# Altium schematic symbol library Schlib1.SchLib: 12 symbols
Pins are listed as number, name and electrical type; pins without a type are passive.

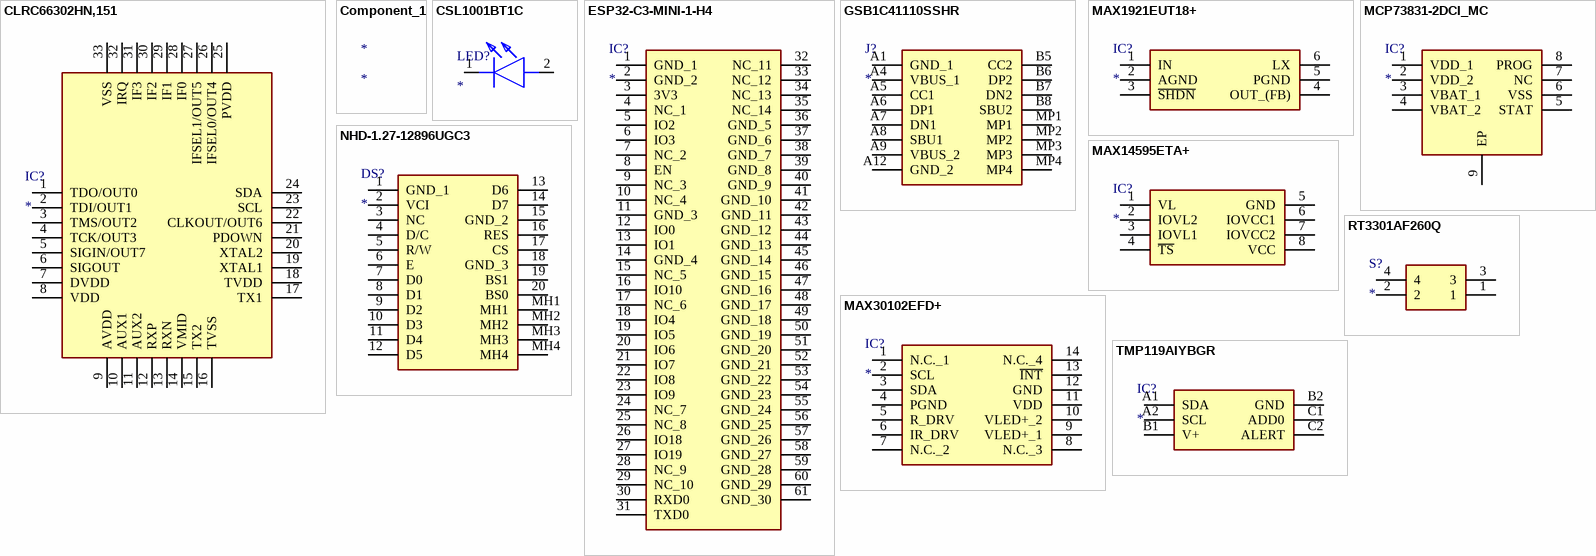
[diagram p0: symbols CLRC66302HN,151 to TMP119AIYBGR]

## CLRC66302HN,151
designator IC?
Integrated Circuit; Manufacturer_Name: NXP; Manufacturer_Part_Number: CLRC66302HN,151; Datasheet Link: https://www.nxp.com/docs/en/data-sheet/CLRC663.pdf; Height: 1mm; Mouser Part Number: 771-CLRC66302HN151; Mouser Price/Stock: https://www.mouser.co.uk/ProductDetail/NXP-Semiconductors/CLRC66302HN151?qs=5J1PErz%2F79mfg%2FHQR3Mbhw%3D%3D; Arrow Part Number: CLRC66302HN,151; Arrow Price/Stock: https://www.arrow.com/en/products/clrc66302hn151/nxp-semiconductors?region=nac
footprint QFN50P500X500X100-33N-D
pins: 1 TDO/OUT0, 2 TDI/OUT1, 3 TMS/OUT2, 4 TCK/OUT3, 5 SIGIN/OUT7, 6 SIGOUT, 7 DVDD, 8 VDD, 9 AVDD, 10 AUX1, 11 AUX2, 12 RXP, 13 RXN, 14 VMID, 15 TX2, 16 TVSS, 17 TX1, 18 TVDD, 19 XTAL1, 20 XTAL2, 21 PDOWN, 22 CLKOUT/OUT6, 23 SCL, 24 SDA, 25 PVDD, 26 IFSEL0/OUT4, 27 IFSEL1/OUT5, 28 IF0, 29 IF1, 30 IF2, 31 IF3, 32 IRQ, 33 VSS

## Component_1
designator *

## CSL1001BT1C
designator LED?
LED; Manufacturer_Name: ROHM Semiconductor; Manufacturer_Part_Number: CSL1001BT1C; Description: Blue 468nm LED Indication - Discrete 2.8V 0603 (1608 Metric); Datasheet Link: https://fscdn.rohm.com/en/products/databook/datasheet/opto/led/chip_mono/csl1001bt1(c)-e.pdf; Height: 1.16mm; Mouser Part Number: 755-CSL1001BT1C; Mouser Price/Stock: https://www.mouser.co.uk/ProductDetail/ROHM-Semiconductor/CSL1001BT1C?qs=HoCaDK9Nz5fqNTX3Pg0ReA%3D%3D
footprint CSL1001BT1C
pins: 1 K, 2 A

## ESP32-C3-MINI-1-H4
designator IC?
Integrated Circuit; Manufacturer_Name: Espressif Systems; Manufacturer_Part_Number: ESP32-C3-MINI-1-H4; Datasheet Link: https://www.mouser.es/datasheet/2/891/Espressif_ESP32_C3_MINI_1_Datasheet-2006822.pdf; Height: 2.55mm; Mouser Part Number: 356-ESP32-C3-MINI1H4; Mouser Price/Stock: https://www.mouser.co.uk/ProductDetail/Espressif-Systems/ESP32-C3-MINI-1-H4?qs=stqOd1AaK78JkwNX13Q9hQ%3D%3D
footprint ESP32C3MINI1H4
pins: 1 GND_1, 2 GND_2, 3 3V3, 4 NC_1, 5 IO2, 6 IO3, 7 NC_2, 8 EN, 9 NC_3, 10 NC_4, 11 GND_3, 12 IO0, 13 IO1, 14 GND_4, 15 NC_5, 16 IO10, 17 NC_6, 18 IO4, 19 IO5, 20 IO6, 21 IO7, 22 IO8, 23 IO9, 24 NC_7, 25 NC_8, 26 IO18, 27 IO19, 28 NC_9, 29 NC_10, 30 RXD0, 31 TXD0, 32 NC_11, 33 NC_12, 34 NC_13, 35 NC_14, 36 GND_5, 37 GND_6, 38 GND_7, 39 GND_8, 40 GND_9, 41 GND_10, 42 GND_11, 43 GND_12, 44 GND_13, 45 GND_14, 46 GND_15, 47 GND_16, 48 GND_17, 49 GND_18, 50 GND_19, 51 GND_20, 52 GND_21, 53 GND_22, 54 GND_23, 55 GND_24, 56 GND_25, 57 GND_26, 58 GND_27, 59 GND_28, 60 GND_29, 61 GND_30

## GSB1C41110SSHR
designator J?
Connector; Manufacturer_Name: Amphenol Communications Solutions; Manufacturer_Part_Number: GSB1C41110SSHR; Datasheet Link: https://cdn.amphenol-cs.com/media/wysiwyg/files/drawing/gsb1c41x10sshr-ax1.pdf; Height: 3.41mm
footprint GSB1C41110SSHR
pins: A1 GND_1, A4 VBUS_1, A5 CC1, A6 DP1, A7 DN1, A8 SBU1, A9 VBUS_2, A12 GND_2, B5 CC2, B6 DP2, B7 DN2, B8 SBU2, MP1, MP2, MP3, MP4

## MAX1921EUT18+
designator IC?
Integrated Circuit; Manufacturer_Name: Analog Devices; Manufacturer_Part_Number: MAX1921EUT18+; Datasheet Link: https://datasheet.datasheetarchive.com/originals/distributors/SFDatasheet-4/sf-00087114.pdf; Height: 1.45mm
footprint SOT95P280X145-6N
pins: 1 IN, 2 AGND, 3 ~{SHDN}, 4 OUT_(FB), 5 PGND, 6 LX

## MAX14595ETA+
designator IC?
Integrated Circuit; Manufacturer_Name: Analog Devices; Manufacturer_Part_Number: MAX14595ETA+; Datasheet Link: https://www.mouser.it/datasheet/2/256/MAX14595-471922.pdf; Height: 0.8mm; Mouser Part Number: 700-MAX14595ETA+; Mouser Price/Stock: https://www.mouser.co.uk/ProductDetail/Maxim-Integrated/MAX14595ETA%2b?qs=Or6ezLSzmEvDejm1TC8ZVA%3D%3D
footprint MAX14595ETA
pins: 1 VL, 2 IOVL2, 3 IOVL1, 4 ~{TS}, 5 GND, 6 IOVCC1, 7 IOVCC2, 8 VCC

## MAX30102EFD+
designator IC?
Integrated Circuit; Manufacturer_Name: Analog Devices; Manufacturer_Part_Number: MAX30102EFD+; Datasheet Link: https://datasheets.maximintegrated.com/en/ds/MAX30102.pdf; Mouser Part Number: 700-MAX30102EFD+; Mouser Price/Stock: https://www.mouser.co.uk/ProductDetail/Analog-Devices-Maxim-Integrated/MAX30102EFD%2b?qs=nVS1qgv%252BQrk9UYEvS27V%2Fg%3D%3D
footprint 14-LEAD-OESIP
pins: 1 N.C._1, 2 SCL, 3 SDA, 4 PGND, 5 R_DRV, 6 IR_DRV, 7 N.C._2, 8 N.C._3, 9 VLED+_1, 10 VLED+_2, 11 VDD, 12 GND, 13 ~{INT}, 14 N.C._4

## MCP73831-2DCI_MC
designator IC?
Integrated Circuit; Manufacturer_Name: Microchip; Manufacturer_Part_Number: MCP73831-2DCI/MC; Datasheet Link: https://www.arrow.com/en/products/mcp73831-2dcimc/microchip-technology; Height: 1mm; Mouser Part Number: 579-MCP73831-2DCI/MC; Mouser Price/Stock: https://www.mouser.co.uk/ProductDetail/Microchip-Technology/MCP73831-2DCI-MC?qs=hH%252BOa0VZEiBQ%2FrptDRXKdg%3D%3D; Arrow Part Number: MCP73831-2DCI/MC; Arrow Price/Stock: https://www.arrow.com/en/products/mcp73831-2dcimc/microchip-technology?region=nac
footprint SON50P300X200X100-9N-D
pins: 1 VDD_1, 2 VDD_2, 3 VBAT_1, 4 VBAT_2, 5 STAT, 6 VSS, 7 NC, 8 PROG, 9 EP

## NHD-1.27-12896UGC3
designator DS?
Display; Manufacturer_Name: Newhaven Display; Manufacturer_Part_Number: NHD-1.27-12896UGC3; Datasheet Link: https://www.newhavendisplay.com/specs/NHD-1.27-12896UGC3.pdf; Height: 5.4mm; Mouser Part Number: 763-NHD1.2712896UGC3; Mouser Price/Stock: https://www.mouser.co.uk/ProductDetail/Newhaven-Display/NHD-127-12896UGC3?qs=6DDkx98%252BHnCcf5K23TlgNg%3D%3D
footprint NHD12712896UGC3
pins: 1 GND_1, 2 VCI, 3 NC, 4 D/C, 5 R/W, 6 E, 7 D0, 8 D1, 9 D2, 10 D3, 11 D4, 12 D5, 13 D6, 14 D7, 15 GND_2, 16 RES, 17 CS, 18 GND_3, 19 BS1, 20 BS0, MH1, MH2, MH3, MH4

## RT3301AF260Q
designator S?
Switch; Manufacturer_Name: E-Switch; Manufacturer_Part_Number: RT3301AF260Q; Datasheet Link: https://configured-product-images.s3.amazonaws.com/2D/specs/RT3301AF260Q.pdf; Height: 5.5mm; Mouser Part Number: 612-RT3301AF260Q; Mouser Price/Stock: https://www.mouser.co.uk/ProductDetail/E-Switch/RT3301AF260Q?qs=9vOqFld9vZXQ7mjGs7Hlew%3D%3D
footprint RT3301AF260Q
footprint GSB1C41110SSHR
pins: 1, 2, 3, 4

## TMP119AIYBGR
designator IC?
Integrated Circuit; Manufacturer_Name: Texas Instruments; Manufacturer_Part_Number: TMP119AIYBGR; Datasheet Link: https://www.ti.com/lit/ds/symlink/tmp119.pdf?ts=1711471230059&ref_url=https%253A%252F%252Fwww.ti.com%252Fsitesearch%252Fen-us%252Fdocs%252Funiversalsearch.tsp%253FlangPref%253Den-US%2526searchTerm%253Dtmp119%2526nr%253D70; Height: 0.525mm; Mouser Part Number: 595-TMP119AIYBGR; Mouser Price/Stock: https://www.mouser.co.uk/ProductDetail/Texas-Instruments/TMP119AIYBGR?qs=dbcCsuKDzFUz%2FSabBerKMA%3D%3D
footprint BGA6C40P2X3_95X149X52
footprint ESP32C3MINI1H4
pins: A1 SDA, A2 SCL, B1 V+, B2 GND, C1 ADD0, C2 ALERT